# Altium integrated library Analog Devices Interface and Isolation Protection Products.IntLib: 92 symbols (part 4 of 5)
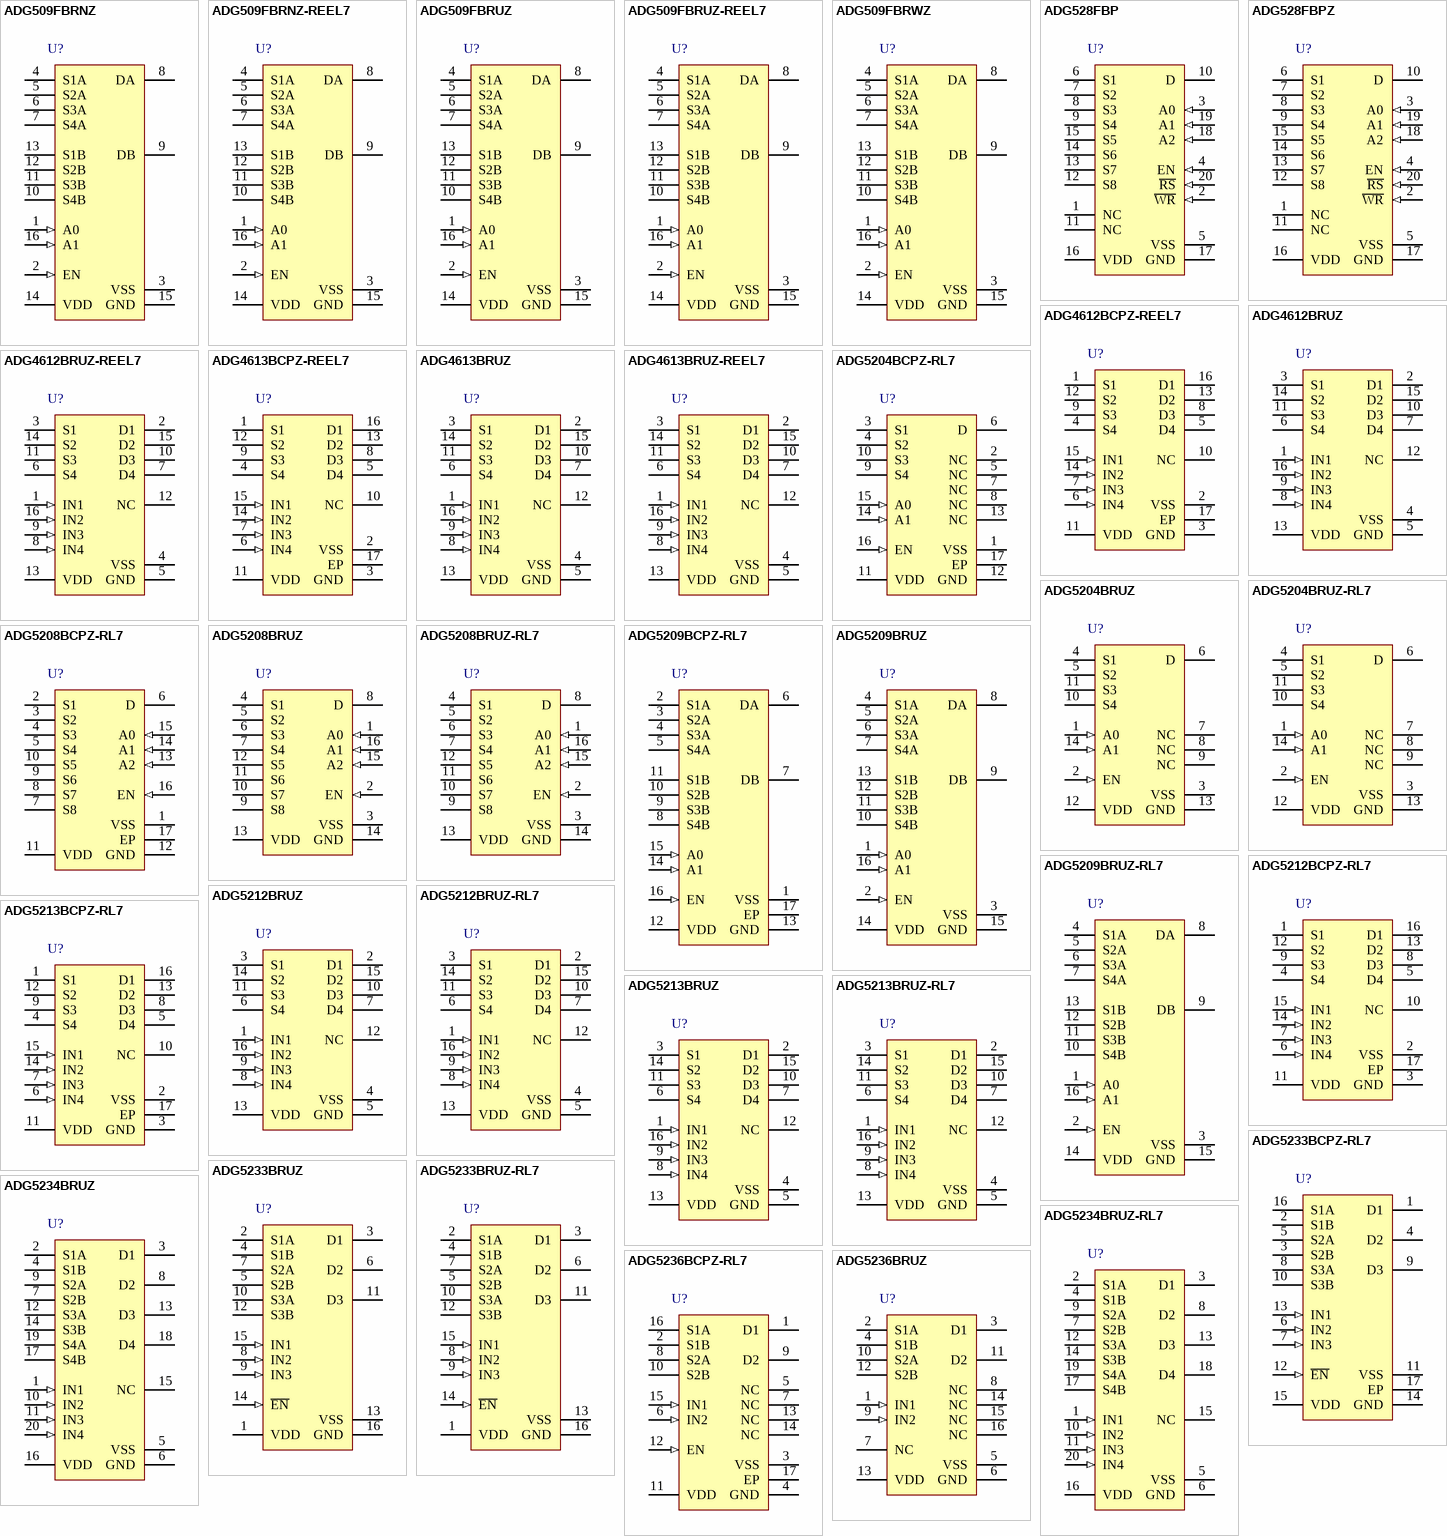
[diagram p5: symbols ADG509FBRNZ to ADG5236BRUZ]

## ADG5213BRUZ
designator U?
High Voltage Latch-Up Proof, Quad SPST Switches, 160 Ohm Ron, 16-pin SOP (RU-16), Tube; Manufacturer: Analog Devices; PartNumber: ADG5213BRUZ; # Sw Functions: 4; Max Neg Supply: -22V; Max Pos Supply: +40V; Ron (ohms): 160, 140, 350, 150; t ON: 175ns, 155ns, 235ns, 190ns; DatasheetVersion: Rev. 0; PackageVersion: Nov-02; PackageReference: RU-16; PackageDescription: 16-Pin Thin Shrink Small Outline Package, Body 5 x 4.4 mm, Pitch 0.65 mm; Supplier 1: Digi-Key; Supplier Part Number 1: ADG5213BRUZ-ND; Supplier 2: Farnell; Supplier Part Number 2: 1903613; Supplier 3: Newark; Supplier Part Number 3: 47T4612; Supplier 4: Mouser; Supplier Part Number 4: 584-ADG5213BRUZ; Configuration: SPST; Packing: Tube; Mounting Technology: Surface Mount; Code_JEDEC: MO-153AB; ComponentLink1Description: Manufacturer URL; ComponentLink1URL: http://www.analog.com/en/index.html; ComponentLink2Description: Datasheet; ComponentLink2URL: http://www.analog.com/static/imported-files/data_sheets/ADG5212_5213.pdf; ComponentLink3Description: Package Specification; ComponentLink3URL: http:/www.analog.com/static/imported-files/packages/36244347913743854010197452789RU16.pdf
footprint ADI-RU-16_N (SOP, 16-Leads, Body 5x4.4mm, Pitch 0.65mm, IPC Medium Density)
footprint ADI-RU-16_L (SOP, 16-Leads, Body 5x4.4mm, Pitch 0.65mm, IPC High Density)
footprint ADI-RU-16_M (SOP, 16-Leads, Body 5x4.4mm, Pitch 0.65mm, IPC Low Density)
pins: 1 IN1 (in) "Logic Control Input.", 2 D1 "Drain Terminal. Can be an input or output.", 3 S1 "Source Terminal. Can be an input or output.", 4 VSS (power) "Most Negative Power Supply Potential.", 5 GND (power) "Ground (0 V) Reference.", 6 S4 "Source Terminal. Can be an input or output.", 7 D4 "Drain Terminal. Can be an input or output.", 8 IN4 (in) "Logic Control Input.", 9 IN3 (in) "Logic Control Input.", 10 D3 "Drain Terminal. Can be an input or output.", 11 S3 "Source Terminal. Can be an input or output.", 12 NC "No Connection.", 13 VDD (power) "Most Positive Power Supply Potential.", 14 S2 "Source Terminal. Can be an input or output.", 15 D2 "Drain Terminal. Can be an input or output.", 16 IN2 (in) "Logic Control Input."

## ADG5213BRUZ-RL7
designator U?
High Voltage Latch-Up Proof, Quad SPST Switches, 160 Ohm Ron, 16-pin SOP (RU-16), Reel; Manufacturer: Analog Devices; PartNumber: ADG5213BRUZ-RL7; # Sw Functions: 4; Max Neg Supply: -22V; Max Pos Supply: +40V; Ron (ohms): 160, 140, 350, 150; t ON: 175ns, 155ns, 235ns, 190ns; DatasheetVersion: Rev. 0; PackageVersion: Nov-02; PackageReference: RU-16; PackageDescription: 16-Pin Thin Shrink Small Outline Package, Body 5 x 4.4 mm, Pitch 0.65 mm; Supplier 1: Digi-Key; Supplier Part Number 1: ADG5213BRUZ-RL7-ND; Supplier 2: Mouser; Supplier Part Number 2: 584-ADG5213BRUZ-R7; Configuration: SPST; Packing: Reel; Mounting Technology: Surface Mount; Code_JEDEC: MO-153AB; ComponentLink1Description: Manufacturer URL; ComponentLink1URL: http://www.analog.com/en/index.html; ComponentLink2Description: Datasheet; ComponentLink2URL: http://www.analog.com/static/imported-files/data_sheets/ADG5212_5213.pdf; ComponentLink3Description: Package Specification; ComponentLink3URL: http:/www.analog.com/static/imported-files/packages/36244347913743854010197452789RU16.pdf
footprint ADI-RU-16_N (SOP, 16-Leads, Body 5x4.4mm, Pitch 0.65mm, IPC Medium Density)
footprint ADI-RU-16_L (SOP, 16-Leads, Body 5x4.4mm, Pitch 0.65mm, IPC High Density)
footprint ADI-RU-16_M (SOP, 16-Leads, Body 5x4.4mm, Pitch 0.65mm, IPC Low Density)
pins: 1 IN1 (in) "Logic Control Input.", 2 D1 "Drain Terminal. Can be an input or output.", 3 S1 "Source Terminal. Can be an input or output.", 4 VSS (power) "Most Negative Power Supply Potential.", 5 GND (power) "Ground (0 V) Reference.", 6 S4 "Source Terminal. Can be an input or output.", 7 D4 "Drain Terminal. Can be an input or output.", 8 IN4 (in) "Logic Control Input.", 9 IN3 (in) "Logic Control Input.", 10 D3 "Drain Terminal. Can be an input or output.", 11 S3 "Source Terminal. Can be an input or output.", 12 NC "No Connection.", 13 VDD (power) "Most Positive Power Supply Potential.", 14 S2 "Source Terminal. Can be an input or output.", 15 D2 "Drain Terminal. Can be an input or output.", 16 IN2 (in) "Logic Control Input."

## ADG5233BCPZ-RL7
designator U?
High Voltage Latch-Up Proof, Triple SPDT Switches, 160 Ohm Ron, 16-pin QFN (CP-16-17), Reel; Manufacturer: Analog Devices; PartNumber: ADG5233BCPZ-RL7; # Sw Functions: 3; Max Neg Supply: -22V; Max Pos Supply: +40V; Ron (ohms): 160, 140, 360, 140; t ON: 175ns, 165ns, 240ns, 200ns; DatasheetVersion: Rev. A; PackageVersion: 08-16-2010-C; PackageReference: CP-16-17; PackageDescription: 16-Pin Lead Frame Chip Scale Package, Body 4 x 4 mm, Pitch 0.65 mm; Supplier 1: Digi-Key; Supplier Part Number 1: ADG5233BCPZ-RL7TR-ND; Supplier 2: Digi-Key; Supplier Part Number 2: ADG5233BCPZ-RL7CT-ND; Supplier 3: Digi-Key; Supplier Part Number 3: ADG5233BCPZ-RL7DKR-ND; Supplier 4: Mouser; Supplier Part Number 4: 584-ADG5233BCPZ-R7; Configuration: SPDT; Packing: Reel; Mounting Technology: Surface Mount; Code_JEDEC: MO-220-WGGC; ComponentLink1Description: Manufacturer URL; ComponentLink1URL: http://www.analog.com/en/index.html; ComponentLink2Description: Datasheet; ComponentLink2URL: http://www.analog.com/static/imported-files/data_sheets/ADG5233_5234.pdf; ComponentLink3Description: Package Specification; ComponentLink3URL: http://www.analog.com/static/imported-files/packages/PKG_PDF/LFCSP(CP)/CP_16_17.pdf
footprint ADI-CP-16-17_N (QFN, 16-Leads, Body 4x4mm, Pitch 0.65mm, Thermal Pad 2.60x2.60mm, IPC Medium Density)
footprint ADI-CP-16-17_L (QFN, 16-Leads, Body 4x4mm, Pitch 0.65mm, Thermal Pad 2.60x2.60mm, IPC High Density)
footprint ADI-CP-16-17_M (QFN, 16-Leads, Body 4x4mm, Pitch 0.65mm, Thermal Pad 2.60x2.60mm, IPC Low Density)
pins: 1 D1 "Drain Terminal 1. This pin can be an input or an output.", 2 S1B "Source Terminal 1B. This pin can be an input or an output.", 3 S2B "Source Terminal 2B. This pin can be an input or an output.", 4 D2 "Drain Terminal 2. This pin can be an input or an output.", 5 S2A "Source Terminal 2A. This pin can be an input or an output.", 6 IN2 (in) "Logic Control Input 2.", 7 IN3 (in) "Logic Control Input 3.", 8 S3A "Source Terminal 3A. This pin can be an input or an output.", 9 D3 "Drain Terminal 3. This pin can be an input or an output.", 10 S3B "Source Terminal 3B. This pin can be an input or an output.", 11 VSS (power) "Most Negative Power Supply Potential. In single-supply applications, this pin can be connected to ground.", 12 ~{EN} (in) "Active Low Digital Input. When high, the device is disabled and all switches are off. When low, INx logic inputs determine the on switches.", 13 IN1 (in) "Logic Control Input 1.", 14 GND (power) "Ground (0 V) Reference", 15 VDD (power) "Most Positive Power Supply Potential.", 16 S1A "Source Terminal 1A. This pin can be an input or an output.", 17 EP (power) "The exposed pad is connected internally. For increased reliability of the solder joints and maximum thermal capability, it is recommended that the pad be soldered to the substrate, VSS."

## ADG5233BRUZ
designator U?
High Voltage Latch-Up Proof, Triple SPDT Switches, 160 Ohm Ron, 16-pin SOP (RU-16), Tube; Manufacturer: Analog Devices; PartNumber: ADG5233BRUZ; # Sw Functions: 3; Max Neg Supply: -22V; Max Pos Supply: +40V; Ron (ohms): 160, 140, 360, 140; t ON: 175ns, 165ns, 240ns, 200ns; DatasheetVersion: Rev. A; PackageVersion: Nov-02; PackageReference: RU-16; PackageDescription: 16-Pin Thin Shrink Small Outline Package, Body 5 x 4.4 mm, Pitch 0.65 mm; Supplier 1: Digi-Key; Supplier Part Number 1: ADG5233BRUZ-ND; Supplier 2: Farnell; Supplier Part Number 2: 2008782; Supplier 3: Newark; Supplier Part Number 3: 58T8827; Supplier 4: Mouser; Supplier Part Number 4: 584-ADG5233BRUZ; Configuration: SPDT; Packing: Tube; Mounting Technology: Surface Mount; Code_JEDEC: MO-153AB; ComponentLink1Description: Manufacturer URL; ComponentLink1URL: http://www.analog.com/en/index.html; ComponentLink2Description: Datasheet; ComponentLink2URL: http://www.analog.com/static/imported-files/data_sheets/ADG5233_5234.pdf; ComponentLink3Description: Package Specification; ComponentLink3URL: http:/www.analog.com/static/imported-files/packages/36244347913743854010197452789RU16.pdf
footprint ADI-RU-16_N (SOP, 16-Leads, Body 5x4.4mm, Pitch 0.65mm, IPC Medium Density)
footprint ADI-RU-16_L (SOP, 16-Leads, Body 5x4.4mm, Pitch 0.65mm, IPC High Density)
footprint ADI-RU-16_M (SOP, 16-Leads, Body 5x4.4mm, Pitch 0.65mm, IPC Low Density)
pins: 1 VDD (power) "Most Positive Power Supply Potential.", 2 S1A "Source Terminal 1A. This pin can be an input or an output.", 3 D1 "Drain Terminal 1. This pin can be an input or an output.", 4 S1B "Source Terminal 1B. This pin can be an input or an output.", 5 S2B "Source Terminal 2B. This pin can be an input or an output.", 6 D2 "Drain Terminal 2. This pin can be an input or an output.", 7 S2A "Source Terminal 2A. This pin can be an input or an output.", 8 IN2 (in) "Logic Control Input 2.", 9 IN3 (in) "Logic Control Input 3.", 10 S3A "Source Terminal 3A. This pin can be an input or an output.", 11 D3 "Drain Terminal 3. This pin can be an input or an output.", 12 S3B "Source Terminal 3B. This pin can be an input or an output.", 13 VSS (power) "Most Negative Power Supply Potential. In single-supply applications, this pin can be connected to ground.", 14 ~{EN} (in) "Active Low Digital Input. When high, the device is disabled and all switches are off. When low, INx logic inputs determine the on switches.", 15 IN1 (in) "Logic Control Input 1.", 16 GND (power) "Ground (0 V) Reference."

## ADG5233BRUZ-RL7
designator U?
High Voltage Latch-Up Proof, Triple SPDT Switches, 160 Ohm Ron, 16-pin SOP (RU-16), Reel; Manufacturer: Analog Devices; PartNumber: ADG5233BRUZ-RL7; # Sw Functions: 3; Max Neg Supply: -22V; Max Pos Supply: +40V; Ron (ohms): 160, 140, 360, 140; t ON: 175ns, 165ns, 240ns, 200ns; DatasheetVersion: Rev. A; PackageVersion: Nov-02; PackageReference: RU-16; PackageDescription: 16-Pin Thin Shrink Small Outline Package, Body 5 x 4.4 mm, Pitch 0.65 mm; Supplier 1: Digi-Key; Supplier Part Number 1: ADG5233BRUZ-RL7-ND; Supplier 2: Mouser; Supplier Part Number 2: 584-ADG5233BRUZ-R7; Configuration: SPDT; Packing: Reel; Mounting Technology: Surface Mount; Code_JEDEC: MO-153AB; ComponentLink1Description: Manufacturer URL; ComponentLink1URL: http://www.analog.com/en/index.html; ComponentLink2Description: Datasheet; ComponentLink2URL: http://www.analog.com/static/imported-files/data_sheets/ADG5233_5234.pdf; ComponentLink3Description: Package Specification; ComponentLink3URL: http:/www.analog.com/static/imported-files/packages/36244347913743854010197452789RU16.pdf
footprint ADI-RU-16_N (SOP, 16-Leads, Body 5x4.4mm, Pitch 0.65mm, IPC Medium Density)
footprint ADI-RU-16_L (SOP, 16-Leads, Body 5x4.4mm, Pitch 0.65mm, IPC High Density)
footprint ADI-RU-16_M (SOP, 16-Leads, Body 5x4.4mm, Pitch 0.65mm, IPC Low Density)
pins: 1 VDD (power) "Most Positive Power Supply Potential.", 2 S1A "Source Terminal 1A. This pin can be an input or an output.", 3 D1 "Drain Terminal 1. This pin can be an input or an output.", 4 S1B "Source Terminal 1B. This pin can be an input or an output.", 5 S2B "Source Terminal 2B. This pin can be an input or an output.", 6 D2 "Drain Terminal 2. This pin can be an input or an output.", 7 S2A "Source Terminal 2A. This pin can be an input or an output.", 8 IN2 (in) "Logic Control Input 2.", 9 IN3 (in) "Logic Control Input 3.", 10 S3A "Source Terminal 3A. This pin can be an input or an output.", 11 D3 "Drain Terminal 3. This pin can be an input or an output.", 12 S3B "Source Terminal 3B. This pin can be an input or an output.", 13 VSS (power) "Most Negative Power Supply Potential. In single-supply applications, this pin can be connected to ground.", 14 ~{EN} (in) "Active Low Digital Input. When high, the device is disabled and all switches are off. When low, INx logic inputs determine the on switches.", 15 IN1 (in) "Logic Control Input 1.", 16 GND (power) "Ground (0 V) Reference."

## ADG5234BRUZ
designator U?
High Voltage Latch-Up Proof, Quad SPDT Switches, 160 Ohm Ron, 20-pin SOP (RU-20), Tube; Manufacturer: Analog Devices; PartNumber: ADG5234BRUZ; # Sw Functions: 4; Max Neg Supply: -22V; Max Pos Supply: +40V; Ron (ohms): 160, 140, 360, 140; t ON: 175ns, 165ns, 240ns, 200ns; DatasheetVersion: Rev. A; PackageVersion: Jan-03; PackageReference: RU-20; PackageDescription: 20-Pin Thin Shrink Small Outline Package, Body 6.5 x 4.4 mm, Pitch 0.65 mm; Supplier 1: Digi-Key; Supplier Part Number 1: ADG5234BRUZ-ND; Supplier 2: Farnell; Supplier Part Number 2: 2008781; Supplier 3: Newark; Supplier Part Number 3: 61T7389; Supplier 4: Newark; Supplier Part Number 4: 58T8829; Supplier 5: Mouser; Supplier Part Number 5: 584-ADG5234BRUZ; Configuration: SPDT; Packing: Tube; Mounting Technology: Surface Mount; Code_JEDEC: MO-153AC; ComponentLink1Description: Manufacturer URL; ComponentLink1URL: http://www.analog.com/en/index.html; ComponentLink2Description: Datasheet; ComponentLink2URL: http://www.analog.com/static/imported-files/data_sheets/ADG5233_5234.pdf; ComponentLink3Description: Package Specification; ComponentLink3URL: http://www.analog.com/static/imported-files/packages/364515793657813558433715854054607941441RU20.pdf
footprint ADI-RU-20_N (SOP, 20-Leads, Body 6.5x4.4mm, Pitch 0.65mm, IPC Medium Density)
footprint ADI-RU-20_L (SOP, 20-Leads, Body 6.5x4.4mm, Pitch 0.65mm, IPC High Density)
footprint ADI-RU-20_M (SOP, 20-Leads, Body 6.5x4.4mm, Pitch 0.65mm, IPC Low Density)
pins: 1 IN1 (in) "Logic Control Input 1.", 2 S1A "Source Terminal 1A. This pin can be an input or an output.", 3 D1 "Drain Terminal 1. This pin can be an input or an output.", 4 S1B "Source Terminal 1B. This pin can be an input or an output.", 5 VSS (power) "Most Negative Power Supply Potential. In single-supply applications, this pin can be connected to ground.", 6 GND (power) "Ground (0 V) Reference.", 7 S2B "Source Terminal 2B. This pin can be an input or an output.", 8 D2 "Drain Terminal 2. This pin can be an input or an output.", 9 S2A "Source Terminal 2A. This pin can be an input or an output.", 10 IN2 (in) "Logic Control Input 2.", 11 IN3 (in) "Logic Control Input 3.", 12 S3A "Source Terminal 3A. This pin can be an input or an output.", 13 D3 "Drain Terminal 3. This pin can be an input or an output.", 14 S3B "Source Terminal 3B. This pin can be an input or an output.", 15 NC "No Connect. This pin is open.", 16 VDD (power) "Most Positive Power Supply Potential.", 17 S4B "Source Terminal 4B. This pin can be an input or an output.", 18 D4 "Drain Terminal 4. This pin can be an input or an output.", 19 S4A "Source Terminal 4A. This pin can be an input or an output.", 20 IN4 (in) "Logic Control Input 4."

## ADG5234BRUZ-RL7
designator U?
High Voltage Latch-Up Proof, Quad SPDT Switches, 160 Ohm Ron, 20-pin SOP (RU-20), Reel; Manufacturer: Analog Devices; PartNumber: ADG5234BRUZ-RL7; # Sw Functions: 4; Max Neg Supply: -22V; Max Pos Supply: +40V; Ron (ohms): 160, 140, 360, 140; t ON: 175ns, 165ns, 240ns, 200ns; DatasheetVersion: Rev. A; PackageVersion: Jan-03; PackageReference: RU-20; PackageDescription: 20-Pin Thin Shrink Small Outline Package, Body 6.5 x 4.4 mm, Pitch 0.65 mm; Supplier 1: Digi-Key; Supplier Part Number 1: ADG5234BRUZ-RL7-ND; Supplier 2: Mouser; Supplier Part Number 2: 584-ADG5234BRUZ-R7; Configuration: SPDT; Packing: Reel; Mounting Technology: Surface Mount; Code_JEDEC: MO-153AC; ComponentLink1Description: Manufacturer URL; ComponentLink1URL: http://www.analog.com/en/index.html; ComponentLink2Description: Datasheet; ComponentLink2URL: http://www.analog.com/static/imported-files/data_sheets/ADG5233_5234.pdf; ComponentLink3Description: Package Specification; ComponentLink3URL: http://www.analog.com/static/imported-files/packages/364515793657813558433715854054607941441RU20.pdf
footprint ADI-RU-20_N (SOP, 20-Leads, Body 6.5x4.4mm, Pitch 0.65mm, IPC Medium Density)
footprint ADI-RU-20_L (SOP, 20-Leads, Body 6.5x4.4mm, Pitch 0.65mm, IPC High Density)
footprint ADI-RU-20_M (SOP, 20-Leads, Body 6.5x4.4mm, Pitch 0.65mm, IPC Low Density)
pins: 1 IN1 (in) "Logic Control Input 1.", 2 S1A "Source Terminal 1A. This pin can be an input or an output.", 3 D1 "Drain Terminal 1. This pin can be an input or an output.", 4 S1B "Source Terminal 1B. This pin can be an input or an output.", 5 VSS (power) "Most Negative Power Supply Potential. In single-supply applications, this pin can be connected to ground.", 6 GND (power) "Ground (0 V) Reference.", 7 S2B "Source Terminal 2B. This pin can be an input or an output.", 8 D2 "Drain Terminal 2. This pin can be an input or an output.", 9 S2A "Source Terminal 2A. This pin can be an input or an output.", 10 IN2 (in) "Logic Control Input 2.", 11 IN3 (in) "Logic Control Input 3.", 12 S3A "Source Terminal 3A. This pin can be an input or an output.", 13 D3 "Drain Terminal 3. This pin can be an input or an output.", 14 S3B "Source Terminal 3B. This pin can be an input or an output.", 15 NC "No Connect. This pin is open.", 16 VDD (power) "Most Positive Power Supply Potential.", 17 S4B "Source Terminal 4B. This pin can be an input or an output.", 18 D4 "Drain Terminal 4. This pin can be an input or an output.", 19 S4A "Source Terminal 4A. This pin can be an input or an output.", 20 IN4 (in) "Logic Control Input 4."

## ADG5236BCPZ-RL7
designator U?
High Voltage Latch-Up Proof, Dual SPDT Switches, 160 Ohm Ron, 16-pin QFN (CP-16-17), Reel; Manufacturer: Analog Devices; PartNumber: ADG5236BCPZ-RL7; # Sw Functions: 2; Max Neg Supply: -22V; Max Pos Supply: +40V; Ron (ohms): 160, 140, 350, 150; t ON: 170ns, 150ns, 275ns, 170ns; DatasheetVersion: Rev. A; PackageVersion: 08-16-2010-C; PackageReference: CP-16-17; PackageDescription: 16-Pin Lead Frame Chip Scale Package, Body 4 x 4 mm, Pitch 0.65 mm; Supplier 1: Digi-Key; Supplier Part Number 1: ADG5236BCPZ-RL7TR-ND; Supplier 2: Digi-Key; Supplier Part Number 2: ADG5236BCPZ-RL7CT-ND; Supplier 3: Digi-Key; Supplier Part Number 3: ADG5236BCPZ-RL7DKR-ND; Supplier 4: Newark; Supplier Part Number 4: 86T6064; Supplier 5: Mouser; Supplier Part Number 5: 584-ADG5236BCPZ-R7; Configuration: SPDT; Packing: Reel; Mounting Technology: Surface Mount; Code_JEDEC: MO-220-WGGC; ComponentLink1Description: Manufacturer URL; ComponentLink1URL: http://www.analog.com/en/index.html; ComponentLink2Description: Datasheet; ComponentLink2URL: http://www.analog.com/static/imported-files/data_sheets/ADG5236.pdf; ComponentLink3Description: Package Specification; ComponentLink3URL: http://www.analog.com/static/imported-files/packages/PKG_PDF/LFCSP(CP)/CP_16_17.pdf
footprint ADI-CP-16-17_N (QFN, 16-Leads, Body 4x4mm, Pitch 0.65mm, Thermal Pad 2.60x2.60mm, IPC Medium Density)
footprint ADI-CP-16-17_L (QFN, 16-Leads, Body 4x4mm, Pitch 0.65mm, Thermal Pad 2.60x2.60mm, IPC High Density)
footprint ADI-CP-16-17_M (QFN, 16-Leads, Body 4x4mm, Pitch 0.65mm, Thermal Pad 2.60x2.60mm, IPC Low Density)
pins: 1 D1 "Drain Terminal 1. This pin can be an input or output", 2 S1B "Source Terminal 1B. This pin can be an input or output.", 3 VSS (power) "Most Negative Power Supply Potential.", 4 GND (power) "Ground (0 V) Reference.", 5 NC "No Connect. These pins are open.", 6 IN2 (in) "Logic Control Input 1.", 7 NC "No Connect. These pins are open.", 8 S2A "Source Terminal 1A. This pin can be an input or output", 9 D2 "Drain Terminal 1. This pin can be an input or output", 10 S2B "Source Terminal 1B. This pin can be an input or output.", 11 VDD (power) "Most Positive Power Supply Potential.", 12 EN (in) "Active High Digital Input. When this pin is low, the device is disabled and all switches are off. When this pin is high, the INx logic inputs determine the on switches.", 13 NC "No Connect. These pins are open.", 14 NC "No Connect. These pins are open.", 15 IN1 (in) "Logic Control Input 1.", 16 S1A "Source Terminal 1A. This pin can be an input or output", 17 EP (power) "EXPOSED PAD TIED TO SUBSTRATE, VSS"

## ADG5236BRUZ
designator U?
High Voltage Latch-Up Proof, Dual SPDT Switches, 160 Ohm Ron, 16-pin SOP (RU-16), Tube; Manufacturer: Analog Devices; PartNumber: ADG5236BRUZ; # Sw Functions: 2; Max Neg Supply: -22V; Max Pos Supply: +40V; Ron (ohms): 160, 140, 350, 150; t ON: 170ns, 150ns, 275ns, 170ns; DatasheetVersion: Rev. A; PackageVersion: Nov-02; PackageReference: RU-16; PackageDescription: 16-Pin Thin Shrink Small Outline Package, Body 5 x 4.4 mm, Pitch 0.65 mm; Supplier 1: Digi-Key; Supplier Part Number 1: ADG5236BRUZ-ND; Supplier 2: Farnell; Supplier Part Number 2: 1944986; Supplier 3: Newark; Supplier Part Number 3: 55T8409; Supplier 4: Mouser; Supplier Part Number 4: 584-ADG5236BRUZ; Configuration: SPDT; Packing: Tube; Mounting Technology: Surface Mount; Code_JEDEC: MO-153AB; ComponentLink1Description: Manufacturer URL; ComponentLink1URL: http://www.analog.com/en/index.html; ComponentLink2Description: Datasheet; ComponentLink2URL: http://www.analog.com/static/imported-files/data_sheets/ADG5236.pdf; ComponentLink3Description: Package Specification; ComponentLink3URL: http:/www.analog.com/static/imported-files/packages/36244347913743854010197452789RU16.pdf
footprint ADI-RU-16_N (SOP, 16-Leads, Body 5x4.4mm, Pitch 0.65mm, IPC Medium Density)
footprint ADI-RU-16_L (SOP, 16-Leads, Body 5x4.4mm, Pitch 0.65mm, IPC High Density)
footprint ADI-RU-16_M (SOP, 16-Leads, Body 5x4.4mm, Pitch 0.65mm, IPC Low Density)
pins: 1 IN1 (in) "Logic Control Input 1.", 2 S1A "Source Terminal 1A. This pin can be an input or output.", 3 D1 "Drain Terminal 1. This pin can be an input or output", 4 S1B "Source Terminal 1B. This pin can be an input or output", 5 VSS (power) "Most Negative Power Supply Potential.", 6 GND (power) "Ground (0 V) Reference.", 7 NC "No Connect. These pins are open.", 8 NC "No Connect. These pins are open.", 9 IN2 (in) "Logic Control Input 2.", 10 S2A "Source Terminal 2A. This pin can be an input or output.", 11 D2 "Drain Terminal 2. This pin can be an input or output", 12 S2B "Source Terminal 2B. This pin can be an input or output.", 13 VDD (power) "Most Positive Power Supply Potential.", 14 NC "No Connect. These pins are open.", 15 NC "No Connect. These pins are open.", 16 NC "No Connect. These pins are open."

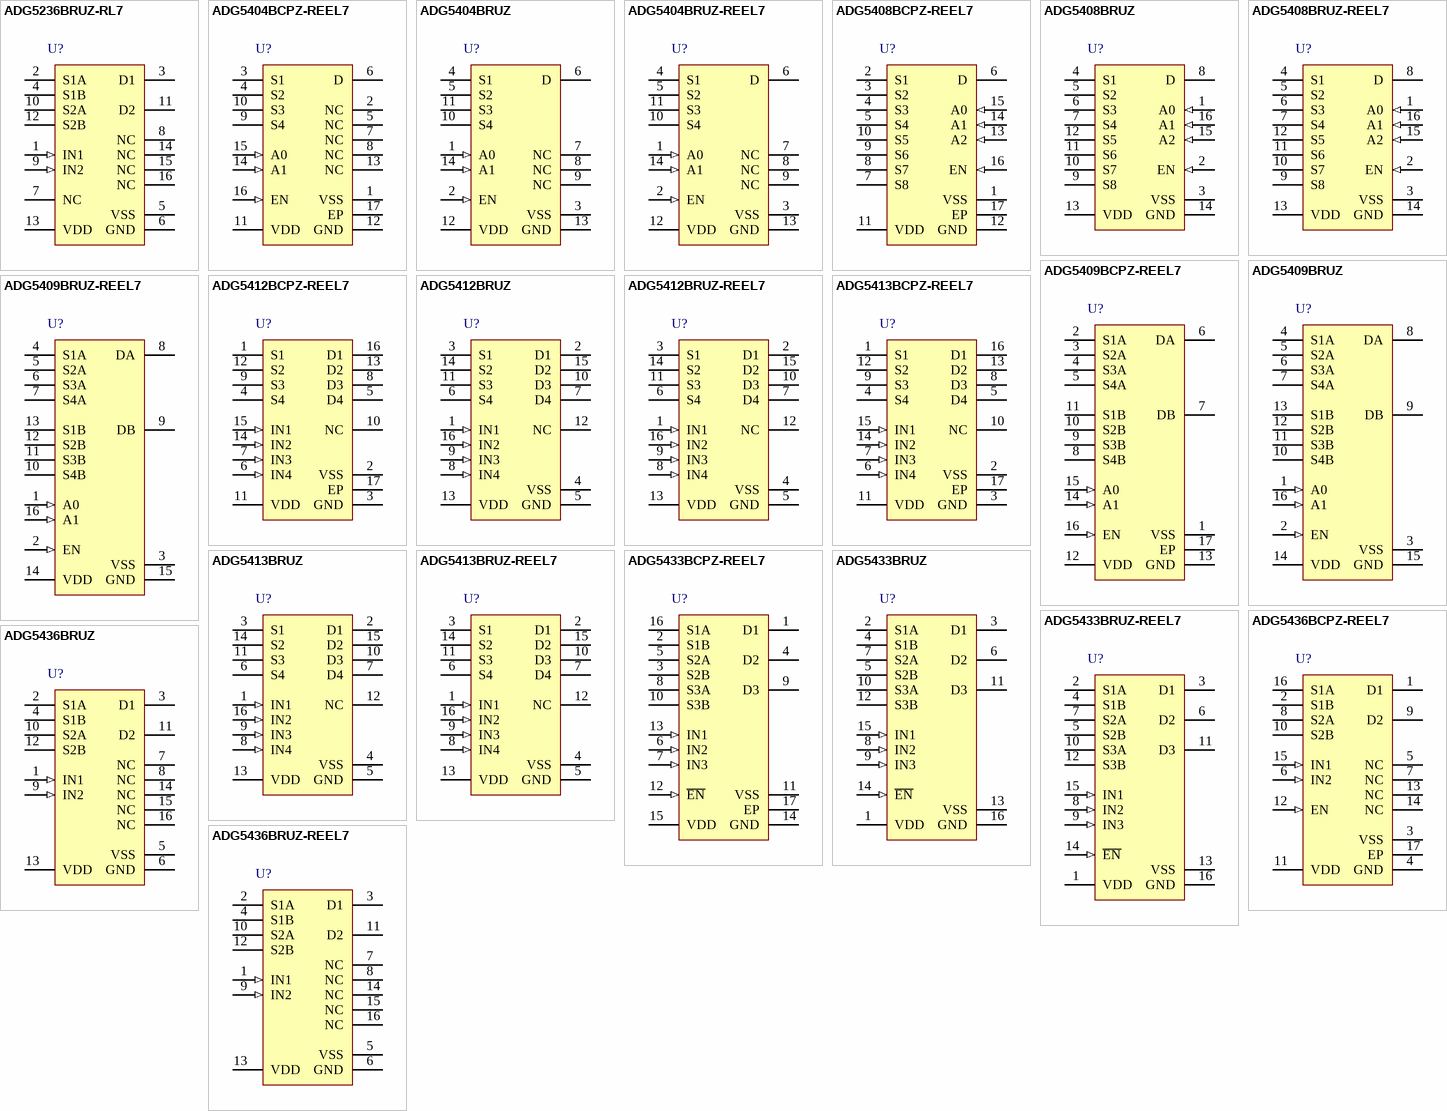
[diagram p2: symbols ADG5236BRUZ-RL7 to ADG5436BRUZ-REEL7]

## ADG5236BRUZ-RL7
designator U?
High Voltage Latch-Up Proof, Dual SPDT Switches, 160 Ohm Ron, 16-pin SOP (RU-16), Reel; Manufacturer: Analog Devices; PartNumber: ADG5236BRUZ-RL7; # Sw Functions: 2; Max Neg Supply: -22V; Max Pos Supply: +40V; Ron (ohms): 160, 140, 350, 150; t ON: 170ns, 150ns, 275ns, 170ns; DatasheetVersion: Rev. A; PackageVersion: Nov-02; PackageReference: RU-16; PackageDescription: 16-Pin Thin Shrink Small Outline Package, Body 5 x 4.4 mm, Pitch 0.65 mm; Supplier 1: Digi-Key; Supplier Part Number 1: ADG5236BRUZ-RL7-ND; Supplier 2: Mouser; Supplier Part Number 2: 584-ADG5236BRUZ-R7; Configuration: SPDT; Packing: Reel; Mounting Technology: Surface Mount; Code_JEDEC: MO-153AB; ComponentLink1Description: Manufacturer URL; ComponentLink1URL: http://www.analog.com/en/index.html; ComponentLink2Description: Datasheet; ComponentLink2URL: http://www.analog.com/static/imported-files/data_sheets/ADG5236.pdf; ComponentLink3Description: Package Specification; ComponentLink3URL: http:/www.analog.com/static/imported-files/packages/36244347913743854010197452789RU16.pdf
footprint ADI-RU-16_N (SOP, 16-Leads, Body 5x4.4mm, Pitch 0.65mm, IPC Medium Density)
footprint ADI-RU-16_L (SOP, 16-Leads, Body 5x4.4mm, Pitch 0.65mm, IPC High Density)
footprint ADI-RU-16_M (SOP, 16-Leads, Body 5x4.4mm, Pitch 0.65mm, IPC Low Density)
pins: 1 IN1 (in) "Logic Control Input 1.", 2 S1A "Source Terminal 1A. This pin can be an input or output.", 3 D1 "Drain Terminal 1. This pin can be an input or output", 4 S1B "Source Terminal 1B. This pin can be an input or output", 5 VSS (power) "Most Negative Power Supply Potential.", 6 GND (power) "Ground (0 V) Reference.", 7 NC "No Connect. These pins are open.", 8 NC "No Connect. These pins are open.", 9 IN2 (in) "Logic Control Input 2.", 10 S2A "Source Terminal 2A. This pin can be an input or output.", 11 D2 "Drain Terminal 2. This pin can be an input or output", 12 S2B "Source Terminal 2B. This pin can be an input or output.", 13 VDD (power) "Most Positive Power Supply Potential.", 14 NC "No Connect. These pins are open.", 15 NC "No Connect. These pins are open.", 16 NC "No Connect. These pins are open."

## ADG5404BCPZ-REEL7
designator U?
High Voltage, Latch-up Proof, 4-Channel Multiplexers, -40 to 125 degC, 16-pin QFN (CP-16-17), Reel; Manufacturer: Analog Devices; PartNumber: ADG5404BCPZ-REEL7; Bandwidth (Hz): 53M, 54M, 43M, 47M; Max Analog Signal Range: Vss to Vdd; Power Diss (W): 2.9m; Ron (ohms): 9; Supply V Guar Performance: Dual_(+/-15V), Dual_(+/-20V), Single_(+12V), Single_(+36V); t transition (s): 175ns; DatasheetVersion: Rev. A; PackageVersion: 08-16-2010-C; PackageReference: CP-16-17; PackageDescription: 16-Pin Lead Frame Chip Scale Package, Body 4 x 4 mm, Pitch 0.65 mm; Supplier 1: Digi-Key; Supplier Part Number 1: ADG5404BCPZ-REEL7CT-ND; Supplier 2: Digi-Key; Supplier Part Number 2: ADG5404BCPZ-REEL7DKR-ND; Supplier 3: Mouser; Supplier Part Number 3: N/A; Packing: Reel; Mounting Technology: Surface Mount; Code_JEDEC: MO-220-WGGC; ComponentLink1Description: Manufacturer URL; ComponentLink1URL: http://www.analog.com/en/index.html; ComponentLink2Description: Datasheet; ComponentLink2URL: http://www.analog.com/static/imported-files/data_sheets/ADG5404.pdf; ComponentLink3Description: Package Specification; ComponentLink3URL: http://www.analog.com/static/imported-files/packages/PKG_PDF/LFCSP(CP)/CP_16_17.pdf
footprint ADI-CP-16-17_N (QFN, 16-Leads, Body 4x4mm, Pitch 0.65mm, Thermal Pad 2.60x2.60mm, IPC Medium Density)
footprint ADI-CP-16-17_L (QFN, 16-Leads, Body 4x4mm, Pitch 0.65mm, Thermal Pad 2.60x2.60mm, IPC High Density)
footprint ADI-CP-16-17_M (QFN, 16-Leads, Body 4x4mm, Pitch 0.65mm, Thermal Pad 2.60x2.60mm, IPC Low Density)
pins: 1 VSS (power) "Most Negative Power Supply Potential.", 2 NC "No Connection.", 3 S1 "Source Terminal. Can be an input or an output.", 4 S2 "Source Terminal. Can be an input or an output.", 5 NC "No Connection.", 6 D "Drain Terminal. Can be an input or an output.", 7 NC "No Connection.", 8 NC "No Connection.", 9 S4 "Source Terminal. Can be an input or an output.", 10 S3 "Source Terminal. Can be an input or an output.", 11 VDD (power) "Most Positive Power Supply Potential.", 12 GND (power) "Ground (0 V) Reference.", 13 NC "No Connection.", 14 A1 (in) "Logic Control Input.", 15 A0 (in) "Logic Control Input.", 16 EN (in) "Active High Digital Input. When this pin is low, the device is disabled and all switches are off. When this pin is high, the Ax logic inputs determine the on switches.", 17 EP (power) "The exposed pad is connected internally. For increased reliability of the solder joints and maximum thermal capability, it is recommended that the pad be soldered to the substrate, VSS."

## ADG5404BRUZ
designator U?
High Voltage, Latch-up Proof, 4-Channel Multiplexers, -40 to 125 degC, 14-pin SOP (RU-14), Tube; Manufacturer: Analog Devices; PartNumber: ADG5404BRUZ; Bandwidth (Hz): 53M, 54M, 43M, 47M; Max Analog Signal Range: Vss to Vdd; Power Diss (W): 2.9m; Ron (ohms): 9; Supply V Guar Performance: Dual_(+/-15V), Dual_(+/-20V), Single_(+12V), Single_(+36V); t transition (s): 175n; DatasheetVersion: Rev. A; PackageVersion: Aug-02; PackageReference: RU-14; PackageDescription: 14-Pin Thin Shrink Small Outline Package, Body 5 x 4.4 mm, Pitch 0.65 mm; Supplier 1: Digi-Key; Supplier Part Number 1: ADG5404BRUZ-ND; Supplier 2: Farnell; Supplier Part Number 2: 1864700; Supplier 3: Newark; Supplier Part Number 3: 85R6318; Supplier 4: Mouser; Supplier Part Number 4: 584-ADG5404BRUZ; Packing: Tube; Mounting Technology: Surface Mount; Code_JEDEC: MO-153AB-1; ComponentLink1Description: Manufacturer URL; ComponentLink1URL: http://www.analog.com/en/index.html; ComponentLink2Description: Datasheet; ComponentLink2URL: http://www.analog.com/static/imported-files/data_sheets/ADG5404.pdf; ComponentLink3Description: Package Specification; ComponentLink3URL: http://www.analog.com/static/imported-files/packages/36057385283879153717235186773RU14.pdf
footprint ADI-RU-14_N (SOP, 14-Leads, Body 5x4.4mm, Pitch 0.65mm, IPC Medium Density)
footprint ADI-RU-14_L (SOP, 14-Leads, Body 5x4.4mm, Pitch 0.65mm, IPC High Density)
footprint ADI-RU-14_M (SOP, 14-Leads, Body 5x4.4mm, Pitch 0.65mm, IPC Low Density)
pins: 1 A0 (in) "Logic Control Input.", 2 EN (in) "Active High Digital Input. When this pin is low, the device is disabled and all switches are off. When this pin is high, the Ax logic inputs determine the on switches.", 3 VSS (power) "Most Negative Power Supply Potential.", 4 S1 "Source Terminal. Can be an input or an output.", 5 S2 "Source Terminal. Can be an input or an output.", 6 D "Drain Terminal. Can be an input or an output.", 7 NC "No Connection.", 8 NC "No Connection.", 9 NC "No Connection.", 10 S4 "Source Terminal. Can be an input or an output.", 11 S3 "Source Terminal. Can be an input or an output.", 12 VDD (power) "Most Positive Power Supply Potential.", 13 GND (power) "Ground (0 V) Reference.", 14 A1 (in) "Logic Control Input."

## ADG5404BRUZ-REEL7
designator U?
High Voltage, Latch-up Proof, 4-Channel Multiplexers, -40 to 125 degC, 14-pin SOP (RU-14), Reel; Manufacturer: Analog Devices; PartNumber: ADG5404BRUZ-REEL7; Bandwidth (Hz): 53M, 54M, 43M, 47M; Max Analog Signal Range: Vss to Vdd; Power Diss (W): 2.9m; Ron (ohms): 9; Supply V Guar Performance: Dual_(+/-15V), Dual_(+/-20V), Single_(+12V), Single_(+36V); t transition (s): 175n; DatasheetVersion: Rev. A; PackageVersion: Aug-02; PackageReference: RU-14; PackageDescription: 14-Pin Thin Shrink Small Outline Package, Body 5 x 4.4 mm, Pitch 0.65 mm; Supplier 1: Digi-Key; Supplier Part Number 1: ADG5404BRUZ-REEL7-ND; Supplier 2: Mouser; Supplier Part Number 2: 584-ADG5404BRUZ-R7; Packing: Reel; Mounting Technology: Surface Mount; Code_JEDEC: MO-153AB-1; ComponentLink1Description: Manufacturer URL; ComponentLink1URL: http://www.analog.com/en/index.html; ComponentLink2Description: Datasheet; ComponentLink2URL: http://www.analog.com/static/imported-files/data_sheets/ADG5404.pdf; ComponentLink3Description: Package Specification; ComponentLink3URL: http://www.analog.com/static/imported-files/packages/36057385283879153717235186773RU14.pdf
footprint ADI-RU-14_N (SOP, 14-Leads, Body 5x4.4mm, Pitch 0.65mm, IPC Medium Density)
footprint ADI-RU-14_L (SOP, 14-Leads, Body 5x4.4mm, Pitch 0.65mm, IPC High Density)
footprint ADI-RU-14_M (SOP, 14-Leads, Body 5x4.4mm, Pitch 0.65mm, IPC Low Density)
pins: 1 A0 (in) "Logic Control Input.", 2 EN (in) "Active High Digital Input. When this pin is low, the device is disabled and all switches are off. When this pin is high, the Ax logic inputs determine the on switches.", 3 VSS (power) "Most Negative Power Supply Potential.", 4 S1 "Source Terminal. Can be an input or an output.", 5 S2 "Source Terminal. Can be an input or an output.", 6 D "Drain Terminal. Can be an input or an output.", 7 NC "No Connection.", 8 NC "No Connection.", 9 NC "No Connection.", 10 S4 "Source Terminal. Can be an input or an output.", 11 S3 "Source Terminal. Can be an input or an output.", 12 VDD (power) "Most Positive Power Supply Potential.", 13 GND (power) "Ground (0 V) Reference.", 14 A1 (in) "Logic Control Input."

## ADG5408BCPZ-REEL7
designator U?
High Voltage, Latch-Up Proof, 8-Channel Multiplexers, -40 to 125 degC, 16-pin QFN (CP-16-17), Reel; Manufacturer: Analog Devices; PartNumber: ADG5408BCPZ-REEL7; Bandwidth (Hz): 50M, 50M, 35M, 45M; Max Analog Signal Range: Vss to Vdd; Power Diss (W): 2.9m; Ron (ohms): 14.5; Supply V Guar Performance: Dual_(+/-15V), Dual_(+/-20V), Single_(+12V), Single_(+36V); t transition (s): 187n; DatasheetVersion: Rev. B; PackageVersion: 08-16-2010-C; PackageReference: CP-16-17; PackageDescription: 16-Pin Lead Frame Chip Scale Package, Body 4 x 4 mm, Pitch 0.65 mm; Supplier 1: Digi-Key; Supplier Part Number 1: ADG5408BCPZ-REEL7CT-ND; Supplier 2: Digi-Key; Supplier Part Number 2: ADG5408BCPZ-REEL7DKR-ND; Supplier 3: Mouser; Supplier Part Number 3: N/A; Packing: Reel; Mounting Technology: Surface Mount; Code_JEDEC: MO-220-WGGC; ComponentLink1Description: Manufacturer URL; ComponentLink1URL: http://www.analog.com/en/index.html; ComponentLink2Description: Datasheet; ComponentLink2URL: http://www.analog.com/static/imported-files/data_sheets/ADG5408_5409.pdf; ComponentLink3Description: Package Specification; ComponentLink3URL: http://www.analog.com/static/imported-files/packages/PKG_PDF/LFCSP(CP)/CP_16_17.pdf
footprint ADI-CP-16-17_N (QFN, 16-Leads, Body 4x4mm, Pitch 0.65mm, Thermal Pad 2.60x2.60mm, IPC Medium Density)
footprint ADI-CP-16-17_L (QFN, 16-Leads, Body 4x4mm, Pitch 0.65mm, Thermal Pad 2.60x2.60mm, IPC High Density)
footprint ADI-CP-16-17_M (QFN, 16-Leads, Body 4x4mm, Pitch 0.65mm, Thermal Pad 2.60x2.60mm, IPC Low Density)
pins: 1 VSS (power) "Most Negative Power Supply Potential. In single-supply applications, this pin can be connected to ground.", 2 S1 "Source Terminal 1. This pin can be an input or an output.", 3 S2 "Source Terminal 2. This pin can be an input or an output.", 4 S3 "Source Terminal 3. This pin can be an input or an output.", 5 S4 "Source Terminal 4. This pin can be an input or an output.", 6 D "Drain Terminal. This pin can be an input or an output.", 7 S8 "Source Terminal 8. This pin can be an input or an output.", 8 S7 "Source Terminal 7. This pin can be an input or an output.", 9 S6 "Source Terminal 6. This pin can be an input or an output.", 10 S5 "Source Terminal 5. This pin can be an input or an output.", 11 VDD (power) "Most Positive Power Supply Potential.", 12 GND (power) "Ground (0 V) Reference.", 13 A2 (in) "Logic Control Input.", 14 A1 (in) "Logic Control Input.", 15 A0 (in) "Logic Control Input.", 16 EN (in) "Active High Digital Input. When low, the device is disabled and all switches are off. When high, Ax logic inputs determine on switches.", 17 EP (power) "The exposed pad is connected internally. For increased reliability of the solder joints and maximum thermal capability, it is recommended that the pad be soldered to the substrate, VSS."

## ADG5408BRUZ
designator U?
High Voltage, Latch-Up Proof, 8-Channel Multiplexers, -40 to 125 degC, 16-pin SOP (RU-16), Tube; Manufacturer: Analog Devices; PartNumber: ADG5408BRUZ; Bandwidth (Hz): 50M, 50M, 35M, 45M; Max Analog Signal Range: Vss to Vdd; Power Diss (W): 2.9m; Ron (ohms): 14.5; Supply V Guar Performance: Dual_(+/-15V), Dual_(+/-20V), Single_(+12V), Single_(+36V); t transition (s): 187n; DatasheetVersion: Rev. B; PackageVersion: Nov-02; PackageReference: RU-16; PackageDescription: 16-Pin Thin Shrink Small Outline Package, Body 5 x 4.4 mm, Pitch 0.65 mm; Supplier 1: Digi-Key; Supplier Part Number 1: ADG5408BRUZ-ND; Supplier 2: Farnell; Supplier Part Number 2: 1864698; Supplier 3: Newark; Supplier Part Number 3: 91R2561; Supplier 4: Mouser; Supplier Part Number 4: 584-ADG5408BRUZ; Packing: Tube; Mounting Technology: Surface Mount; Code_JEDEC: MO-153AB; ComponentLink1Description: Manufacturer URL; ComponentLink1URL: http://www.analog.com/en/index.html; ComponentLink2Description: Datasheet; ComponentLink2URL: http://www.analog.com/static/imported-files/data_sheets/ADG5408_5409.pdf; ComponentLink3Description: Package Specification; ComponentLink3URL: http:/www.analog.com/static/imported-files/packages/36244347913743854010197452789RU16.pdf
footprint ADI-RU-16_N (SOP, 16-Leads, Body 5x4.4mm, Pitch 0.65mm, IPC Medium Density)
footprint ADI-RU-16_L (SOP, 16-Leads, Body 5x4.4mm, Pitch 0.65mm, IPC High Density)
footprint ADI-RU-16_M (SOP, 16-Leads, Body 5x4.4mm, Pitch 0.65mm, IPC Low Density)
pins: 1 A0 (in) "Logic Control Input.", 2 EN (in) "Active High Digital Input. When low, the device is disabled and all switches are off. When high,  Ax logic inputs determine on switches.", 3 VSS (power) "Most Negative Power Supply Potential. In single-supply applications, this pin can be connected to the ground.", 4 S1 "Source Terminal 1. This pin can be an input or an output.", 5 S2 "Source Terminal 2. This pin can be an input or an output.", 6 S3 "Source Terminal 3. This pin can be an input or an output.", 7 S4 "Source Terminal 4. This pin can be an input or an output.", 8 D "Drain Terminal. This pin can be an input or an output.", 9 S8 "Source Terminal 8. This pin can be an input or an output.", 10 S7 "Source Terminal 7. This pin can be an input or an output.", 11 S6 "Source Terminal 6. This pin can be an input or an output.", 12 S5 "Source Terminal 5. This pin can be an input or an output.", 13 VDD (power) "Most Positive Power Supply Potential.", 14 GND (power) "Ground (0 V) Reference.", 15 A2 (in) "Logic Control Input.", 16 A1 (in) "Logic Control Input."

## ADG5408BRUZ-REEL7
designator U?
High Voltage, Latch-Up Proof, 8-Channel Multiplexers, -40 to 125 degC, 16-pin SOP (RU-16), Reel; Manufacturer: Analog Devices; PartNumber: ADG5408BRUZ-REEL7; Bandwidth (Hz): 50M, 50M, 35M, 45M; Max Analog Signal Range: Vss to Vdd; Power Diss (W): 2.9m; Ron (ohms): 14.5; Supply V Guar Performance: Dual_(+/-15V), Dual_(+/-20V), Single_(+12V), Single_(+36V); t transition (s): 187n; DatasheetVersion: Rev. B; PackageVersion: Nov-02; PackageReference: RU-16; PackageDescription: 16-Pin Thin Shrink Small Outline Package, Body 5 x 4.4 mm, Pitch 0.65 mm; Supplier 1: Digi-Key; Supplier Part Number 1: ADG5408BRUZ-REEL7-ND; Supplier 2: Newark; Supplier Part Number 2: 91R2562; Supplier 3: Mouser; Supplier Part Number 3: 584-ADG5408BRUZ-R7; Packing: Reel; Mounting Technology: Surface Mount; Code_JEDEC: MO-153AB; ComponentLink1Description: Manufacturer URL; ComponentLink1URL: http://www.analog.com/en/index.html; ComponentLink2Description: Datasheet; ComponentLink2URL: http://www.analog.com/static/imported-files/data_sheets/ADG5408_5409.pdf; ComponentLink3Description: Package Specification; ComponentLink3URL: http:/www.analog.com/static/imported-files/packages/36244347913743854010197452789RU16.pdf
footprint ADI-RU-16_N (SOP, 16-Leads, Body 5x4.4mm, Pitch 0.65mm, IPC Medium Density)
footprint ADI-RU-16_L (SOP, 16-Leads, Body 5x4.4mm, Pitch 0.65mm, IPC High Density)
footprint ADI-RU-16_M (SOP, 16-Leads, Body 5x4.4mm, Pitch 0.65mm, IPC Low Density)
pins: 1 A0 (in) "Logic Control Input.", 2 EN (in) "Active High Digital Input. When low, the device is disabled and all switches are off. When high,  Ax logic inputs determine on switches.", 3 VSS (power) "Most Negative Power Supply Potential. In single-supply applications, this pin can be connected to the ground.", 4 S1 "Source Terminal 1. This pin can be an input or an output.", 5 S2 "Source Terminal 2. This pin can be an input or an output.", 6 S3 "Source Terminal 3. This pin can be an input or an output.", 7 S4 "Source Terminal 4. This pin can be an input or an output.", 8 D "Drain Terminal. This pin can be an input or an output.", 9 S8 "Source Terminal 8. This pin can be an input or an output.", 10 S7 "Source Terminal 7. This pin can be an input or an output.", 11 S6 "Source Terminal 6. This pin can be an input or an output.", 12 S5 "Source Terminal 5. This pin can be an input or an output.", 13 VDD (power) "Most Positive Power Supply Potential.", 14 GND (power) "Ground (0 V) Reference.", 15 A2 (in) "Logic Control Input.", 16 A1 (in) "Logic Control Input."

## ADG5409BCPZ-REEL7
designator U?
High Voltage, Latch-Up Proof, 4-Channel Multiplexers, -40 to 125 degC, 16-pin QFN (CP-16-17), Reel; Manufacturer: Analog Devices; PartNumber: ADG5409BCPZ-REEL7; Bandwidth (Hz): 87M, 88M, 74M, 76M; Max Analog Signal Range: Vss to Vdd; Power Diss (W): 2.9m; Ron (ohms): 12.5; Supply V Guar Performance: Dual_(+/-15V), Dual_(+/-20V), Single_(+12V), Single_(+36V); t transition (s): 160n; DatasheetVersion: Rev. B; PackageVersion: 08-16-2010-C; PackageReference: CP-16-17; PackageDescription: 16-Pin Lead Frame Chip Scale Package, Body 4 x 4 mm, Pitch 0.65 mm; Supplier 1: Digi-Key; Supplier Part Number 1: ADG5409BCPZ-REEL7TR-ND; Supplier 2: Digi-Key; Supplier Part Number 2: ADG5409BCPZ-REEL7CT-ND; Supplier 3: Digi-Key; Supplier Part Number 3: ADG5409BCPZ-REEL7DKR-ND; Supplier 4: Newark; Supplier Part Number 4: 23T4142; Supplier 5: Mouser; Supplier Part Number 5: 584-ADG5409BCPZ-R7; Packing: Reel; Mounting Technology: Surface Mount; Code_JEDEC: MO-220-WGGC; ComponentLink1Description: Manufacturer URL; ComponentLink1URL: http://www.analog.com/en/index.html; ComponentLink2Description: Datasheet; ComponentLink2URL: http://www.analog.com/static/imported-files/data_sheets/ADG5408_5409.pdf; ComponentLink3Description: Package Specification; ComponentLink3URL: http://www.analog.com/static/imported-files/packages/PKG_PDF/LFCSP(CP)/CP_16_17.pdf
footprint ADI-CP-16-17_N (QFN, 16-Leads, Body 4x4mm, Pitch 0.65mm, Thermal Pad 2.60x2.60mm, IPC Medium Density)
footprint ADI-CP-16-17_L (QFN, 16-Leads, Body 4x4mm, Pitch 0.65mm, Thermal Pad 2.60x2.60mm, IPC High Density)
footprint ADI-CP-16-17_M (QFN, 16-Leads, Body 4x4mm, Pitch 0.65mm, Thermal Pad 2.60x2.60mm, IPC Low Density)
pins: 1 VSS (power) "Most Negative Power Supply Potential. In single-supply applications, this pin can be connected to ground.", 2 S1A "Source Terminal 1A. This pin can be an input or an output.", 3 S2A "Source Terminal 2A. This pin can be an input or an output.", 4 S3A "Source Terminal 3A. This pin can be an input or an output.", 5 S4A "Source Terminal 4A. This pin can be an input or an output.", 6 DA "Drain Terminal A. This pin can be an input or an output.", 7 DB "Drain Terminal B. This pin can be an input or an output.", 8 S4B "Source Terminal 4B. This pin can be an input or an output.", 9 S3B "Source Terminal 3B. This pin can be an input or an output.", 10 S2B "Source Terminal 2B. This pin can be an input or an output.", 11 S1B "Source Terminal 1B. This pin can be an input or an output.", 12 VDD (power) "Most Positive Power Supply Potential.", 13 GND (power) "Ground (0 V) Reference.", 14 A1 (in) "Logic Control Input.", 15 A0 (in) "Logic Control Input.", 16 EN (in) "Active High Digital Input. When low, the device is disabled and all switches are off. When high, Ax logic inputs determine on switches.", 17 EP (power) "The exposed pad is connected internally. For increased reliability of the solder joints and maximum thermal capability, it is recommended that the pad be soldered to the substrate, VSS."

## ADG5409BRUZ
designator U?
High Voltage, Latch-Up Proof, 4-Channel Multiplexers, -40 to 125 degC, 16-pin SOP (RU-16), Tube; Manufacturer: Analog Devices; PartNumber: ADG5409BRUZ; Bandwidth (Hz): 87M, 88M, 74M, 76M; Max Analog Signal Range: Vss to Vdd; Power Diss (W): 2.9m; Ron (ohms): 12.5; Supply V Guar Performance: Dual_(+/-15V), Dual_(+/-20V), Single_(+12V), Single_(+36V); t transition (s): 160n; DatasheetVersion: Rev. B; PackageVersion: Nov-02; PackageReference: RU-16; PackageDescription: 16-Pin Thin Shrink Small Outline Package, Body 5 x 4.4 mm, Pitch 0.65 mm; Supplier 1: Digi-Key; Supplier Part Number 1: ADG5409BRUZ-ND; Supplier 2: Farnell; Supplier Part Number 2: 1864699; Supplier 3: Newark; Supplier Part Number 3: 91R2563; Supplier 4: Mouser; Supplier Part Number 4: 584-ADG5409BRUZ; Packing: Tube; Mounting Technology: Surface Mount; Code_JEDEC: MO-153AB; ComponentLink1Description: Manufacturer URL; ComponentLink1URL: http://www.analog.com/en/index.html; ComponentLink2Description: Datasheet; ComponentLink2URL: http://www.analog.com/static/imported-files/data_sheets/ADG5408_5409.pdf; ComponentLink3Description: Package Specification; ComponentLink3URL: http:/www.analog.com/static/imported-files/packages/36244347913743854010197452789RU16.pdf
footprint ADI-RU-16_N (SOP, 16-Leads, Body 5x4.4mm, Pitch 0.65mm, IPC Medium Density)
footprint ADI-RU-16_L (SOP, 16-Leads, Body 5x4.4mm, Pitch 0.65mm, IPC High Density)
footprint ADI-RU-16_M (SOP, 16-Leads, Body 5x4.4mm, Pitch 0.65mm, IPC Low Density)
pins: 1 A0 (in) "Logic Control Input.", 2 EN (in) "Active High Digital Input. When low, the device is disabled and all switches are off. When high, Ax logic inputs determine on switches.", 3 VSS (power) "Most Negative Power Supply Potential. In single-supply applications, this pin can be connected to ground.", 4 S1A "Source Terminal 1A. This pin can be an input or an output.", 5 S2A "Source Terminal 2A. This pin can be an input or an output.", 6 S3A "Source Terminal 3A. This pin can be an input or an output.", 7 S4A "Source Terminal 4A. This pin can be an input or an output.", 8 DA "Drain Terminal A. This pin can be an input or an output.", 9 DB "Drain Terminal B. This pin can be an input or an output.", 10 S4B "Source Terminal 4B. This pin can be an input or an output.", 11 S3B "Source Terminal 3B. This pin can be an input or an output.", 12 S2B "Source Terminal 2B. This pin can be an input or an output.", 13 S1B "Source Terminal 1B. This pin can be an input or an output.", 14 VDD (power) "Most Positive Power Supply Potential.", 15 GND (power) "Ground (0 V) Reference.", 16 A1 (in) "Logic Control Input."

## ADG5409BRUZ-REEL7
designator U?
High Voltage, Latch-Up Proof, 4-Channel Multiplexers, -40 to 125 degC, 16-pin SOP (RU-16), Reel; Manufacturer: Analog Devices; PartNumber: ADG5409BRUZ-REEL7; Bandwidth (Hz): 87M, 88M, 74M, 76M; Max Analog Signal Range: Vss to Vdd; Power Diss (W): 2.9m; Ron (ohms): 12.5; Supply V Guar Performance: Dual_(+/-15V), Dual_(+/-20V), Single_(+12V), Single_(+36V); t transition (s): 160n; DatasheetVersion: Rev. B; PackageVersion: Nov-02; PackageReference: RU-16; PackageDescription: 16-Pin Thin Shrink Small Outline Package, Body 5 x 4.4 mm, Pitch 0.65 mm; Supplier 1: Digi-Key; Supplier Part Number 1: ADG5409BRUZ-REEL7-ND; Supplier 2: Newark; Supplier Part Number 2: 91R2564; Supplier 3: Mouser; Supplier Part Number 3: 584-ADG5409BRUZ-R7; Packing: Reel; Mounting Technology: Surface Mount; Code_JEDEC: MO-153AB; ComponentLink1Description: Manufacturer URL; ComponentLink1URL: http://www.analog.com/en/index.html; ComponentLink2Description: Datasheet; ComponentLink2URL: http://www.analog.com/static/imported-files/data_sheets/ADG5408_5409.pdf; ComponentLink3Description: Package Specification; ComponentLink3URL: http:/www.analog.com/static/imported-files/packages/36244347913743854010197452789RU16.pdf
footprint ADI-RU-16_N (SOP, 16-Leads, Body 5x4.4mm, Pitch 0.65mm, IPC Medium Density)
footprint ADI-RU-16_L (SOP, 16-Leads, Body 5x4.4mm, Pitch 0.65mm, IPC High Density)
footprint ADI-RU-16_M (SOP, 16-Leads, Body 5x4.4mm, Pitch 0.65mm, IPC Low Density)
pins: 1 A0 (in) "Logic Control Input.", 2 EN (in) "Active High Digital Input. When low, the device is disabled and all switches are off. When high, Ax logic inputs determine on switches.", 3 VSS (power) "Most Negative Power Supply Potential. In single-supply applications, this pin can be connected to ground.", 4 S1A "Source Terminal 1A. This pin can be an input or an output.", 5 S2A "Source Terminal 2A. This pin can be an input or an output.", 6 S3A "Source Terminal 3A. This pin can be an input or an output.", 7 S4A "Source Terminal 4A. This pin can be an input or an output.", 8 DA "Drain Terminal A. This pin can be an input or an output.", 9 DB "Drain Terminal B. This pin can be an input or an output.", 10 S4B "Source Terminal 4B. This pin can be an input or an output.", 11 S3B "Source Terminal 3B. This pin can be an input or an output.", 12 S2B "Source Terminal 2B. This pin can be an input or an output.", 13 S1B "Source Terminal 1B. This pin can be an input or an output.", 14 VDD (power) "Most Positive Power Supply Potential.", 15 GND (power) "Ground (0 V) Reference.", 16 A1 (in) "Logic Control Input."